# Altium schematic symbol library ICD2.SchLib: 1 symbol
Pins are listed as number, name and electrical type; pins without a type are passive.

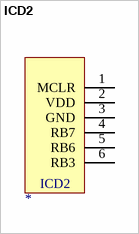
[diagram p0: symbol ICD2]

## ICD2
designator ?
pins: 1 MCLR, 2 VDD, 3 GND, 4 RB7, 5 RB6, 6 RB3